# Altium schematic symbol library cap_elec.SchLib: 1 symbol
Pins are listed as number, name and electrical type; pins without a type are passive.

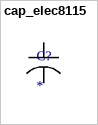
[diagram p0: symbol cap_elec8115]

## cap_elec8115
designator C?
footprint CAP_8115
pins: neg, pos